# Altium footprint library RPSLib_Antenna.PcbLib: 23 footprints (part 2 of 2)
Each footprint in its own frame and in the unit in brackets; x right, y up, seen from the top. Pads: shape width x height; smd on the part's side, far side on the other; paste and mask are expansions set on the pad; w line width, h text height; cw(c..) or ccw(c..) is an arc to the next point about the centre after c.
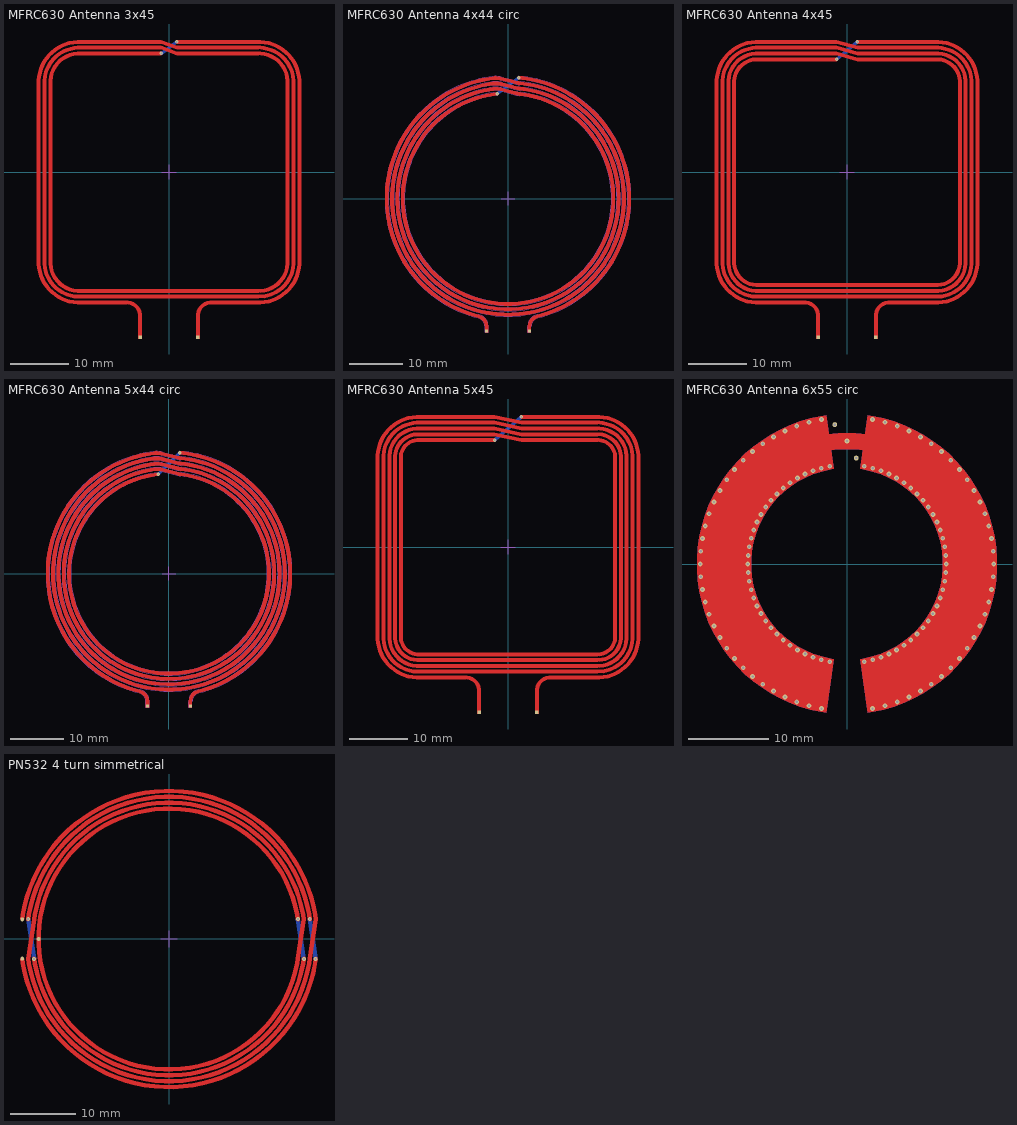
[diagram p1: the footprints below, top view; thin cyan lines are the x and y axes]

## MFRC630 Antenna 3x45 [mm] "Антенна 3 витка 45 мм"
pads (2):
  rect 0.6x0.6 smd mask+0.07: 1(-5,-28.5) 2(5,-28.5)
via -1.3,20.5 diameter 0.6 hole 0.3
via 1.3,22.5 diameter 0.6 hole 0.3
Top Layer:
  region: 5.3,-28.8 5.3,-24.8 5.31,-24.604 5.386,-24.219 5.536,-23.857 5.754,-23.531 6.031,-23.254 6.357,-23.036 6.719,-22.886 7.104,-22.81 7.3,-22.8 15.5,-22.8 15.859,-22.8 16.572,-22.73 17.276,-22.59 17.962,-22.382 18.625,-22.107 19.257,-21.769 19.854,-21.37 20.408,-20.915 20.915,-20.408 21.37,-19.854 21.769,-19.257 22.107,-18.625 22.382,-17.962 22.59,-17.276 22.73,-16.572 22.8,-15.859 22.8,-15.5 22.8,15.5 22.8,15.859 22.73,16.572 22.59,17.276 22.382,17.962 22.107,18.625 21.769,19.257 21.37,19.854 20.915,20.408 20.408,20.915 19.854,21.37 19.257,21.769 18.625,22.107 17.962,22.382 17.276,22.59 16.572,22.73 15.859,22.8 15.5,22.8 1.3,22.8 1.3,22.2 15.5,22.2 15.829,22.192 16.483,22.127 17.128,21.999 17.757,21.808 18.365,21.557 18.944,21.247 19.491,20.881 19.999,20.464 20.464,19.999 20.881,19.491 21.247,18.944 21.557,18.365 21.808,17.757 21.999,17.128 22.127,16.483 22.192,15.829 22.2,15.5 22.2,-15.5 22.192,-15.829 22.127,-16.483 21.999,-17.128 21.808,-17.757 21.557,-18.365 21.247,-18.944 20.881,-19.491 20.464,-19.999 19.999,-20.464 19.491,-20.881 18.944,-21.247 18.365,-21.557 17.757,-21.808 17.128,-21.999 16.483,-22.127 15.829,-22.192 15.5,-22.2 7.3,-22.2 7.044,-22.2 6.542,-22.3 6.068,-22.496 5.643,-22.78 5.28,-23.143 4.996,-23.568 4.8,-24.042 4.7,-24.544 4.7,-24.8 4.7,-28.8
  region: 370 vertices and 0 holes, not listed, extent -22.8,-28.8 21.8,22.8
Bottom Layer:
  lines w0.6: -1.3,20.5 1.3,22.5
Top Solder:
  rectangle: -2.4,20 2.7,23
Mechanical 15:
  lines w0.2: -1.25,0 1.25,0 ; 0,-1.25 0,1.25

## MFRC630 Antenna 4x44 circ [mm] "Антенна 4витка 44 мм"
pads (2):
  rect 0.6x0.6 smd mask+0.07: 1(-4,-24.75) 2(4,-24.75)
via -2,19.598 diameter 0.6 hole 0.3
via 2,22.612 diameter 0.6 hole 0.3
Top Layer:
  region: 805 vertices and 0 holes, not listed, extent -23,-25 22,22.864
  region: 3.7,-25 4.3,-25 4.3,-23.96 4.306,-23.82 4.352,-23.542 4.444,-23.276 4.578,-23.029 4.751,-22.807 4.958,-22.617 5.194,-22.463 5.452,-22.351 5.587,-22.311 6.327,-22.126 7.778,-21.658 9.195,-21.096 10.572,-20.441 11.902,-19.696 13.181,-18.864 14.401,-17.95 15.558,-16.957 16.647,-15.889 17.662,-14.752 18.601,-13.55 19.457,-12.288 20.228,-10.973 20.91,-9.609 21.501,-8.203 21.997,-6.762 22.396,-5.29 22.698,-3.795 22.899,-2.284 23,-0.762 23,0 23,0.711 22.912,2.129 22.737,3.54 22.475,4.937 22.128,6.315 21.696,7.669 21.181,8.993 20.585,10.284 19.911,11.535 19.161,12.742 18.338,13.901 17.445,15.006 16.485,16.055 15.462,17.042 14.381,17.964 13.244,18.817 12.057,19.599 10.825,20.306 9.55,20.936 8.24,21.485 6.898,21.953 5.529,22.337 4.14,22.636 2.734,22.848 2.026,22.911 1.974,22.313 2.662,22.241 4.03,22.035 5.382,21.744 6.714,21.37 8.021,20.915 9.297,20.38 10.537,19.767 11.737,19.079 12.893,18.318 13.999,17.487 15.052,16.589 16.047,15.628 16.981,14.608 17.851,13.532 18.652,12.404 19.382,11.229 20.039,10.011 20.618,8.755 21.12,7.465 21.54,6.147 21.878,4.805 22.133,3.446 22.304,2.073 22.389,0.692 22.4,0 22.388,-0.742 22.289,-2.223 22.093,-3.694 21.8,-5.149 21.411,-6.582 20.928,-7.985 20.354,-9.353 19.69,-10.681 18.939,-11.961 18.105,-13.189 17.192,-14.359 16.204,-15.466 15.144,-16.505 14.018,-17.472 12.83,-18.362 11.586,-19.171 10.291,-19.896 8.95,-20.534 7.571,-21.082 6.158,-21.537 5.441,-21.729 5.256,-21.775 4.906,-21.928 4.586,-22.136 4.304,-22.395 4.069,-22.696 3.887,-23.031 3.763,-23.393 3.7,-23.769 3.7,-23.96
Bottom Layer:
  lines w0.6: -2,19.598 2,22.612
Mechanical 1:
  lines w0.1: -23,0 cw(c0,0) -2.813,22.827 cw(c-2.287,18.56) -1.24,22.73 0.073,22.401 1.787,21.97 ccw(c2.688,25.559) 2.301,21.879 cw(c0,0) 22,0 cw(c0,0) 0,-22 cw(c0,0) -22,0 cw(c0,0) -2.83,21.817 cw(c-2.277,17.553) -1.23,21.723 0.073,21.396 1.796,20.964 ccw(c2.697,24.552) 2.293,20.874 cw(c0,0) 21,0 cw(c0,0) 0,-21 cw(c0,0) -21,0 cw(c0,0) -2.849,20.806 cw(c-2.266,16.546) -1.218,20.716 0.073,20.392 1.805,19.956 ccw(c2.707,23.545) 2.284,19.869 cw(c0,0) 20,0 cw(c0,0) 0,-20 cw(c0,0) -20,0 cw(c0,0) -2.03,19.897 -1.97,19.3 ccw(c0,0) -19.4,0 ccw(c0,0) 0,-19.4 ccw(c0,0) 19.4,0 ccw(c0,0) 2.216,19.273 cw(c2.707,23.545) 1.659,19.374 -0.073,19.81 -1.364,20.134 ccw(c-2.266,16.546) -2.768,20.211 ccw(c0,0) -20.4,0 ccw(c0,0) 0,-20.4 ccw(c0,0) 20.4,0 ccw(c0,0) 2.228,20.278 cw(c2.697,24.552) 1.65,20.382 -0.073,20.814 -1.376,21.142 ccw(c-2.277,17.553) -2.753,21.222 ccw(c0,0) -21.4,0 ccw(c0,0) 0,-21.4 ccw(c0,0) 21.4,0 ccw(c0,0) 2.238,21.283 cw(c2.688,25.559) 1.641,21.388 -0.073,21.819 -1.386,22.148 ccw(c-2.287,18.56) -2.739,22.232 ccw(c0,0) -22.4,0 ccw(c0,0) -5.441,-21.729 cw(c-6,-23.96) -3.7,-23.96 -3.7,-25 -4.3,-25 -4.3,-23.96 ccw(c-6,-23.96) -5.587,-22.311 cw(c0,0) -23,0 ; 1.974,22.313 cw(c0,0) 22.4,0 cw(c0,0) 5.441,-21.729 ccw(c6,-23.96) 3.7,-23.96 3.7,-25 4.3,-25 4.3,-23.96 cw(c6,-23.96) 5.587,-22.311 ccw(c0,0) 23,0 ccw(c0,0) 2.026,22.911 1.974,22.313
Mechanical 15:
  lines w0.2: -1.25,0 1.25,0 ; 0,-1.25 0,1.25

## MFRC630 Antenna 4x45 [mm] "Антенна 4 витка 45 мм"
pads (2):
  rect 0.6x0.6 smd mask+0.07: 1(-5,-28.5) 2(5,-28.5)
via -1.8,19.5 diameter 0.6 hole 0.3
via 1.8,22.5 diameter 0.6 hole 0.3
Top Layer:
  region: 4.7,-28.8 5.3,-28.8 5.3,-24.8 5.31,-24.604 5.386,-24.219 5.536,-23.857 5.754,-23.531 6.031,-23.254 6.357,-23.036 6.719,-22.886 7.104,-22.81 7.3,-22.8 15.5,-22.8 15.859,-22.8 16.572,-22.73 17.276,-22.59 17.962,-22.382 18.625,-22.107 19.257,-21.769 19.854,-21.37 20.408,-20.915 20.915,-20.408 21.37,-19.854 21.769,-19.257 22.107,-18.625 22.382,-17.962 22.59,-17.276 22.73,-16.572 22.8,-15.859 22.8,-15.5 22.8,15.5 22.8,15.859 22.73,16.572 22.59,17.276 22.382,17.962 22.107,18.625 21.769,19.257 21.37,19.854 20.915,20.408 20.408,20.915 19.854,21.37 19.257,21.769 18.625,22.107 17.962,22.382 17.276,22.59 16.572,22.73 15.859,22.8 15.5,22.8 1.8,22.8 1.8,22.2 15.5,22.2 15.829,22.192 16.483,22.127 17.128,21.999 17.757,21.808 18.365,21.557 18.944,21.247 19.491,20.881 19.999,20.464 20.464,19.999 20.881,19.491 21.247,18.944 21.557,18.365 21.808,17.757 21.999,17.128 22.127,16.483 22.192,15.829 22.2,15.5 22.2,-15.5 22.192,-15.829 22.127,-16.483 21.999,-17.128 21.808,-17.757 21.557,-18.365 21.247,-18.944 20.881,-19.491 20.464,-19.999 19.999,-20.464 19.491,-20.881 18.944,-21.247 18.365,-21.557 17.757,-21.808 17.128,-21.999 16.483,-22.127 15.829,-22.192 15.5,-22.2 7.3,-22.2 7.044,-22.2 6.542,-22.3 6.068,-22.496 5.643,-22.78 5.28,-23.143 4.996,-23.568 4.8,-24.042 4.7,-24.544 4.7,-24.8
  region: 499 vertices and 0 holes, not listed, extent -22.8,-28.8 21.8,22.8
Bottom Layer:
  lines w0.6: -1.8,19.5 1.8,22.5
Top Solder:
  rectangle: -2.2,19 2.8,23
Mechanical 15:
  lines w0.2: -1.25,0 1.25,0 ; 0,-1.25 0,1.25

## MFRC630 Antenna 5x44 circ [mm] "Антенна 5 витков 44 мм"
pads (2):
  rect 0.6x0.6 smd mask+0.07: 1(-4,-24.75) 2(4,-24.75)
via -2,18.593 diameter 0.6 hole 0.3
via 2,22.612 diameter 0.6 hole 0.3
Top Layer:
  region: 928 vertices and 0 holes, not listed, extent -23.001,-25 22.01,22.864
  region: 3.7,-25 3.7,-23.96 3.7,-23.769 3.763,-23.393 3.887,-23.031 4.069,-22.696 4.304,-22.395 4.586,-22.136 4.906,-21.928 5.256,-21.775 5.441,-21.729 6.132,-21.544 7.493,-21.109 8.824,-20.589 10.119,-19.984 11.373,-19.298 12.581,-18.533 13.737,-17.693 14.838,-16.781 15.878,-15.801 16.853,-14.756 17.76,-13.651 18.594,-12.491 19.353,-11.279 20.033,-10.022 20.631,-8.724 21.146,-7.391 21.574,-6.027 21.914,-4.639 22.166,-3.232 22.327,-1.812 22.397,-0.384 22.376,1.045 22.263,2.47 22.061,3.885 21.768,5.284 21.387,6.661 20.918,8.011 20.365,9.329 19.728,10.609 19.012,11.846 18.217,13.034 17.349,14.169 16.41,15.247 15.404,16.262 14.336,17.212 13.209,18.091 12.028,18.896 10.799,19.625 9.525,20.274 8.213,20.84 6.867,21.321 5.493,21.716 4.097,22.022 2.684,22.239 1.974,22.313 2.026,22.911 2.758,22.846 4.209,22.623 5.643,22.309 7.055,21.904 8.437,21.409 9.785,20.828 11.094,20.161 12.357,19.413 13.57,18.585 14.727,17.682 15.825,16.706 16.858,15.663 17.823,14.556 18.715,13.39 19.531,12.169 20.267,10.899 20.921,9.584 21.49,8.23 21.971,6.843 22.362,5.428 22.663,3.991 22.871,2.537 22.987,1.073 23.008,-0.395 22.936,-1.861 22.771,-3.32 22.513,-4.766 22.163,-6.192 21.723,-7.593 21.195,-8.962 20.58,-10.296 19.881,-11.587 19.102,-12.832 18.245,-14.024 17.313,-15.159 16.311,-16.232 15.243,-17.239 14.112,-18.176 12.924,-19.039 11.684,-19.825 10.396,-20.53 9.065,-21.151 7.698,-21.686 6.299,-22.133 5.587,-22.311 5.452,-22.351 5.194,-22.463 4.958,-22.617 4.751,-22.807 4.578,-23.029 4.444,-23.276 4.352,-23.542 4.306,-23.82 4.3,-23.96 4.3,-25
Bottom Layer:
  lines w0.6: -2,18.593 2,22.612
Mechanical 1:
  lines w0.1: -5.587,-22.311 cw(c0,0) -2.813,22.827 cw(c-2.287,18.56) -1.24,22.73 1.787,21.97 ccw(c2.688,25.559) 2.301,21.879 cw(c0,0) -2.83,21.817 cw(c-2.277,17.553) -1.23,21.723 1.796,20.964 ccw(c2.697,24.552) 2.293,20.874 cw(c0,0) -2.849,20.806 cw(c-2.266,16.546) -1.218,20.716 1.805,19.956 ccw(c2.707,23.545) 2.284,19.869 cw(c0,0) -2.87,19.793 cw(c-2.253,15.537) -1.205,19.708 1.816,18.948 ccw(c2.718,22.537) 2.275,18.863 cw(c0,0) -2.032,18.891 -1.968,18.294 ccw(c0,0) 2.203,18.268 cw(c2.718,22.537) 1.67,18.366 -1.351,19.126 ccw(c-2.253,15.537) -2.784,19.199 ccw(c0,0) 2.216,19.273 cw(c2.707,23.545) 1.659,19.374 -1.364,20.134 ccw(c-2.266,16.546) -2.768,20.211 ccw(c0,0) 2.228,20.278 cw(c2.697,24.552) 1.65,20.382 -1.376,21.142 ccw(c-2.277,17.553) -2.753,21.222 ccw(c0,0) 2.238,21.283 cw(c2.688,25.559) 1.641,21.388 -1.386,22.148 ccw(c-2.287,18.56) -2.739,22.232 ccw(c0,0) -5.441,-21.729 cw(c-6,-23.96) -3.7,-23.96 -3.7,-25 -4.3,-25 -4.3,-23.96 ccw(c-6,-23.96) -5.587,-22.311 ; 1.974,22.313 cw(c0,0) 5.441,-21.729 ccw(c6,-23.96) 3.7,-23.96 3.7,-25 4.3,-25 4.3,-23.96 cw(c6,-23.96) 5.587,-22.311 ccw(c0,0) 2.026,22.911 1.974,22.313
Mechanical 15:
  lines w0.2: -1.25,0 1.25,0 ; 0,-1.25 0,1.25

## MFRC630 Antenna 5x45 [mm] "Антенна 5 витка 45 мм"
pads (2):
  rect 0.6x0.6 smd mask+0.07: 1(-5,-28.5) 2(5,-28.5)
via -2.3,18.5 diameter 0.6 hole 0.3
via 2.3,22.5 diameter 0.6 hole 0.3
Top Layer:
  region: 4.7,-28.8 5.3,-28.8 5.3,-24.8 5.31,-24.604 5.386,-24.219 5.536,-23.857 5.754,-23.531 6.031,-23.254 6.357,-23.036 6.719,-22.886 7.104,-22.81 7.3,-22.8 15.5,-22.8 15.859,-22.8 16.572,-22.73 17.276,-22.59 17.962,-22.382 18.625,-22.107 19.257,-21.769 19.854,-21.37 20.408,-20.915 20.915,-20.408 21.37,-19.854 21.769,-19.257 22.107,-18.625 22.382,-17.962 22.59,-17.276 22.73,-16.572 22.8,-15.859 22.8,-15.5 22.8,15.5 22.8,15.859 22.73,16.572 22.59,17.276 22.382,17.962 22.107,18.625 21.769,19.257 21.37,19.854 20.915,20.408 20.408,20.915 19.854,21.37 19.257,21.769 18.625,22.107 17.962,22.382 17.276,22.59 16.572,22.73 15.859,22.8 15.5,22.8 2.3,22.8 2.3,22.2 15.5,22.2 15.829,22.192 16.483,22.127 17.128,21.999 17.757,21.808 18.365,21.557 18.944,21.247 19.491,20.881 19.999,20.464 20.464,19.999 20.881,19.491 21.247,18.944 21.557,18.365 21.808,17.757 21.999,17.128 22.127,16.483 22.192,15.829 22.2,15.5 22.2,-15.5 22.192,-15.829 22.127,-16.483 21.999,-17.128 21.808,-17.757 21.557,-18.365 21.247,-18.944 20.881,-19.491 20.464,-19.999 19.999,-20.464 19.491,-20.881 18.944,-21.247 18.365,-21.557 17.757,-21.808 17.128,-21.999 16.483,-22.127 15.829,-22.192 15.5,-22.2 7.3,-22.2 7.044,-22.2 6.542,-22.3 6.068,-22.496 5.643,-22.78 5.28,-23.143 4.996,-23.568 4.8,-24.042 4.7,-24.544 4.7,-24.8
  region: 622 vertices and 0 holes, not listed, extent -22.8,-28.8 21.8,22.8
Bottom Layer:
  lines w0.6: -2.3,18.5 2.3,22.5
Top Solder:
  rectangle: -4.5,18 4.7,23
Mechanical 15:
  lines w0.2: -1.25,0 1.25,0 ; 0,-1.25 0,1.25

## MFRC630 Antenna 6x55 circ [mm] "Антенна 6 витков 35 мм"
pads (3):
  round 0.6 hole 0.3 mask+0.07: 1(-1.524,17.424) 2(1.159,13.244) 3(0,15.375)
via 18.35,0 diameter 0.6 hole 0.3
via 18.28,-1.599 diameter 0.6 hole 0.3
via 18.071,-3.186 diameter 0.6 hole 0.3
via 17.725,-4.749 diameter 0.6 hole 0.3
via 17.243,-6.276 diameter 0.6 hole 0.3
via 16.631,-7.755 diameter 0.6 hole 0.3
via 15.892,-9.175 diameter 0.6 hole 0.3
via 15.031,-10.525 diameter 0.6 hole 0.3
via 14.057,-11.795 diameter 0.6 hole 0.3
via 12.975,-12.975 diameter 0.6 hole 0.3
via 11.795,-14.057 diameter 0.6 hole 0.3
via 10.525,-15.031 diameter 0.6 hole 0.3
via 9.175,-15.892 diameter 0.6 hole 0.3
via 7.755,-16.631 diameter 0.6 hole 0.3
via 6.276,-17.243 diameter 0.6 hole 0.3
via 4.749,-17.725 diameter 0.6 hole 0.3
via 3.186,-18.071 diameter 0.6 hole 0.3
via -3.186,-18.071 diameter 0.6 hole 0.3
via -4.749,-17.725 diameter 0.6 hole 0.3
via -6.276,-17.243 diameter 0.6 hole 0.3
via -7.755,-16.631 diameter 0.6 hole 0.3
via -9.175,-15.892 diameter 0.6 hole 0.3
via -10.525,-15.031 diameter 0.6 hole 0.3
via -11.795,-14.057 diameter 0.6 hole 0.3
via -12.975,-12.975 diameter 0.6 hole 0.3
via -14.057,-11.795 diameter 0.6 hole 0.3
via -15.031,-10.525 diameter 0.6 hole 0.3
via -15.892,-9.175 diameter 0.6 hole 0.3
via -16.631,-7.755 diameter 0.6 hole 0.3
via -17.243,-6.276 diameter 0.6 hole 0.3
via -17.725,-4.749 diameter 0.6 hole 0.3
via -18.071,-3.186 diameter 0.6 hole 0.3
via -18.28,-1.599 diameter 0.6 hole 0.3
via -18.35,0 diameter 0.6 hole 0.3
via -18.28,1.599 diameter 0.6 hole 0.3
via -18.071,3.186 diameter 0.6 hole 0.3
via -17.725,4.749 diameter 0.6 hole 0.3
via -17.243,6.276 diameter 0.6 hole 0.3
via -16.631,7.755 diameter 0.6 hole 0.3
via -15.892,9.175 diameter 0.6 hole 0.3
via -15.031,10.525 diameter 0.6 hole 0.3
via -14.057,11.795 diameter 0.6 hole 0.3
via -12.975,12.975 diameter 0.6 hole 0.3
via -11.795,14.057 diameter 0.6 hole 0.3
via -10.525,15.031 diameter 0.6 hole 0.3
via -9.175,15.892 diameter 0.6 hole 0.3
via -7.755,16.631 diameter 0.6 hole 0.3
via -6.276,17.243 diameter 0.6 hole 0.3
via -4.749,17.725 diameter 0.6 hole 0.3
via -3.186,18.071 diameter 0.6 hole 0.3
via 3.186,18.071 diameter 0.6 hole 0.3
via 4.749,17.725 diameter 0.6 hole 0.3
via 6.276,17.243 diameter 0.6 hole 0.3
via 7.755,16.631 diameter 0.6 hole 0.3
via 9.175,15.892 diameter 0.6 hole 0.3
via 10.525,15.031 diameter 0.6 hole 0.3
via 11.795,14.057 diameter 0.6 hole 0.3
via 12.975,12.975 diameter 0.6 hole 0.3
via 14.057,11.795 diameter 0.6 hole 0.3
via 15.031,10.525 diameter 0.6 hole 0.3
via 15.892,9.175 diameter 0.6 hole 0.3
via 16.631,7.755 diameter 0.6 hole 0.3
via 17.243,6.276 diameter 0.6 hole 0.3
via 17.725,4.749 diameter 0.6 hole 0.3
via 18.071,3.186 diameter 0.6 hole 0.3
via 18.28,1.599 diameter 0.6 hole 0.3
via 18.35,0 diameter 0.6 hole 0.3
via 7.112,-10.157 diameter 0.6 hole 0.3
via 5.24,-11.238 diameter 0.6 hole 0.3
via 4.241,-11.652 diameter 0.6 hole 0.3
via 2.153,-12.212 diameter 0.6 hole 0.3
via 7.971,-9.499 diameter 0.6 hole 0.3
via 6.2,-10.739 diameter 0.6 hole 0.3
via 3.209,-11.977 diameter 0.6 hole 0.3
via 12.353,-1.081 diameter 0.6 hole 0.3
via 12.212,-2.153 diameter 0.6 hole 0.3
via 11.977,-3.209 diameter 0.6 hole 0.3
via 11.652,-4.241 diameter 0.6 hole 0.3
via 11.238,-5.24 diameter 0.6 hole 0.3
via 10.739,-6.2 diameter 0.6 hole 0.3
via 10.157,-7.112 diameter 0.6 hole 0.3
via 9.499,-7.971 diameter 0.6 hole 0.3
via 8.768,-8.768 diameter 0.6 hole 0.3
via -8.768,-8.768 diameter 0.6 hole 0.3
via -9.499,-7.971 diameter 0.6 hole 0.3
via -10.157,-7.112 diameter 0.6 hole 0.3
via -10.739,-6.2 diameter 0.6 hole 0.3
via -11.238,-5.24 diameter 0.6 hole 0.3
via -11.652,-4.241 diameter 0.6 hole 0.3
via -11.977,-3.209 diameter 0.6 hole 0.3
via -12.212,-2.153 diameter 0.6 hole 0.3
via -12.353,-1.081 diameter 0.6 hole 0.3
via -3.209,-11.977 diameter 0.6 hole 0.3
via -6.2,-10.739 diameter 0.6 hole 0.3
via -7.971,-9.499 diameter 0.6 hole 0.3
via -2.153,-12.212 diameter 0.6 hole 0.3
via -4.241,-11.652 diameter 0.6 hole 0.3
via -5.24,-11.238 diameter 0.6 hole 0.3
via -7.112,-10.157 diameter 0.6 hole 0.3
via -7.112,10.157 diameter 0.6 hole 0.3
via -5.24,11.238 diameter 0.6 hole 0.3
via -4.241,11.652 diameter 0.6 hole 0.3
via -2.153,12.212 diameter 0.6 hole 0.3
via -7.971,9.499 diameter 0.6 hole 0.3
via -6.2,10.739 diameter 0.6 hole 0.3
via -3.209,11.977 diameter 0.6 hole 0.3
via -12.4,0 diameter 0.6 hole 0.3
via -12.353,1.081 diameter 0.6 hole 0.3
via -12.212,2.153 diameter 0.6 hole 0.3
via -11.977,3.209 diameter 0.6 hole 0.3
via -11.652,4.241 diameter 0.6 hole 0.3
via -11.238,5.24 diameter 0.6 hole 0.3
via -10.739,6.2 diameter 0.6 hole 0.3
via -10.157,7.112 diameter 0.6 hole 0.3
via -9.499,7.971 diameter 0.6 hole 0.3
via -8.768,8.768 diameter 0.6 hole 0.3
via 8.768,8.768 diameter 0.6 hole 0.3
via 9.499,7.971 diameter 0.6 hole 0.3
via 10.157,7.112 diameter 0.6 hole 0.3
via 10.739,6.2 diameter 0.6 hole 0.3
via 11.238,5.24 diameter 0.6 hole 0.3
via 11.652,4.241 diameter 0.6 hole 0.3
via 11.977,3.209 diameter 0.6 hole 0.3
via 12.212,2.153 diameter 0.6 hole 0.3
via 12.353,1.081 diameter 0.6 hole 0.3
via 12.4,0 diameter 0.6 hole 0.3
via 3.209,11.977 diameter 0.6 hole 0.3
via 6.2,10.739 diameter 0.6 hole 0.3
via 7.971,9.499 diameter 0.6 hole 0.3
via 2.153,12.212 diameter 0.6 hole 0.3
via 4.241,11.652 diameter 0.6 hole 0.3
via 5.24,11.238 diameter 0.6 hole 0.3
via 7.112,10.157 diameter 0.6 hole 0.3
Top Layer:
  region: -2.609,-18.568 -3.274,-18.474 -4.587,-18.193 -5.876,-17.818 -7.135,-17.353 -8.357,-16.798 -9.537,-16.158 -10.667,-15.434 -11.744,-14.632 -12.76,-13.755 -13.71,-12.808 -14.591,-11.795 -15.397,-10.721 -16.124,-9.593 -16.769,-8.415 -17.328,-7.195 -17.798,-5.938 -18.177,-4.65 -18.463,-3.339 -18.654,-2.01 -18.75,-0.671 -18.75,0.671 -18.654,2.01 -18.463,3.339 -18.177,4.65 -17.798,5.938 -17.328,7.195 -16.769,8.415 -16.124,9.593 -15.397,10.721 -14.591,11.795 -13.71,12.808 -12.76,13.755 -11.744,14.632 -10.667,15.434 -9.537,16.158 -8.357,16.798 -7.135,17.353 -5.876,17.818 -4.587,18.193 -3.274,18.474 -2.609,18.568 -1.67,11.883 -2.2,11.797 -3.245,11.553 -4.264,11.217 -5.249,10.791 -6.192,10.279 -7.085,9.685 -7.922,9.013 -8.695,8.27 -9.399,7.46 -10.028,6.59 -10.577,5.668 -11.041,4.701 -11.417,3.696 -11.701,2.661 -11.892,1.605 -11.988,0.537 -11.988,-0.537 -11.892,-1.605 -11.701,-2.661 -11.417,-3.696 -11.041,-4.701 -10.577,-5.668 -10.028,-6.59 -9.399,-7.46 -8.695,-8.27 -7.922,-9.013 -7.085,-9.685 -6.192,-10.279 -5.249,-10.791 -4.264,-11.217 -3.245,-11.553 -2.2,-11.797 -1.67,-11.883
  region: 1.67,-11.883 2.2,-11.797 3.245,-11.553 4.264,-11.217 5.249,-10.791 6.192,-10.279 7.085,-9.685 7.922,-9.013 8.695,-8.27 9.399,-7.46 10.028,-6.59 10.577,-5.668 11.041,-4.701 11.417,-3.696 11.701,-2.661 11.892,-1.605 11.988,-0.537 11.988,0.537 11.892,1.605 11.701,2.661 11.417,3.696 11.041,4.701 10.577,5.668 10.028,6.59 9.399,7.46 8.695,8.27 7.922,9.013 7.085,9.685 6.192,10.279 5.249,10.791 4.264,11.217 3.245,11.553 2.2,11.797 1.67,11.883 2.609,18.568 3.274,18.474 4.587,18.193 5.876,17.818 7.135,17.353 8.357,16.798 9.537,16.158 10.667,15.434 11.744,14.632 12.76,13.755 13.71,12.808 14.591,11.795 15.397,10.721 16.124,9.593 16.769,8.415 17.328,7.195 17.798,5.938 18.177,4.65 18.463,3.339 18.654,2.01 18.75,0.671 18.75,-0.671 18.654,-2.01 18.463,-3.339 18.177,-4.65 17.798,-5.938 17.328,-7.195 16.769,-8.415 16.124,-9.593 15.397,-10.721 14.591,-11.795 13.71,-12.808 12.76,-13.755 11.744,-14.632 10.667,-15.434 9.537,-16.158 8.357,-16.798 7.135,-17.353 5.876,-17.818 4.587,-18.193 3.274,-18.474 2.609,-18.568
  region: -2.496,14.157 -2.843,16.126 -2.492,16.188 -1.783,16.282 -1.071,16.344 -0.357,16.375 0.357,16.375 1.071,16.344 1.783,16.282 2.492,16.188 2.843,16.126 2.496,14.157 2.187,14.208 1.565,14.29 0.94,14.344 0.314,14.372 -0.314,14.372 -0.94,14.344 -1.565,14.29 -2.187,14.208
Signal Layer 1:
  drawing of 1 lines, arcs and shapes, not listed
Bottom Layer:
  region: 1.67,-11.883 2.2,-11.797 3.245,-11.553 4.264,-11.217 5.249,-10.791 6.192,-10.279 7.085,-9.685 7.922,-9.013 8.695,-8.27 9.399,-7.46 10.028,-6.59 10.577,-5.668 11.041,-4.701 11.417,-3.696 11.701,-2.661 11.892,-1.605 11.988,-0.537 11.988,0.537 11.892,1.605 11.701,2.661 11.417,3.696 11.041,4.701 10.577,5.668 10.028,6.59 9.399,7.46 8.695,8.27 7.922,9.013 7.085,9.685 6.192,10.279 5.249,10.791 4.264,11.217 3.245,11.553 2.2,11.797 1.67,11.883 2.609,18.568 3.274,18.474 4.587,18.193 5.876,17.818 7.135,17.353 8.357,16.798 9.537,16.158 10.667,15.434 11.744,14.632 12.76,13.755 13.71,12.808 14.591,11.795 15.397,10.721 16.124,9.593 16.769,8.415 17.328,7.195 17.798,5.938 18.177,4.65 18.463,3.339 18.654,2.01 18.75,0.671 18.75,-0.671 18.654,-2.01 18.463,-3.339 18.177,-4.65 17.798,-5.938 17.328,-7.195 16.769,-8.415 16.124,-9.593 15.397,-10.721 14.591,-11.795 13.71,-12.808 12.76,-13.755 11.744,-14.632 10.667,-15.434 9.537,-16.158 8.357,-16.798 7.135,-17.353 5.876,-17.818 4.587,-18.193 3.274,-18.474 2.609,-18.568
  region: -2.496,14.157 -2.843,16.126 -2.492,16.188 -1.783,16.282 -1.071,16.344 -0.357,16.375 0.357,16.375 1.071,16.344 1.783,16.282 2.492,16.188 2.843,16.126 2.496,14.157 2.187,14.208 1.565,14.29 0.94,14.344 0.314,14.372 -0.314,14.372 -0.94,14.344 -1.565,14.29 -2.187,14.208
  region: -2.609,-18.568 -3.274,-18.474 -4.587,-18.193 -5.876,-17.818 -7.135,-17.353 -8.357,-16.798 -9.537,-16.158 -10.667,-15.434 -11.744,-14.632 -12.76,-13.755 -13.71,-12.808 -14.591,-11.795 -15.397,-10.721 -16.124,-9.593 -16.769,-8.415 -17.328,-7.195 -17.798,-5.938 -18.177,-4.65 -18.463,-3.339 -18.654,-2.01 -18.75,-0.671 -18.75,0.671 -18.654,2.01 -18.463,3.339 -18.177,4.65 -17.798,5.938 -17.328,7.195 -16.769,8.415 -16.124,9.593 -15.397,10.721 -14.591,11.795 -13.71,12.808 -12.76,13.755 -11.744,14.632 -10.667,15.434 -9.537,16.158 -8.357,16.798 -7.135,17.353 -5.876,17.818 -4.587,18.193 -3.274,18.474 -2.609,18.568 -1.67,11.883 -2.2,11.797 -3.245,11.553 -4.264,11.217 -5.249,10.791 -6.192,10.279 -7.085,9.685 -7.922,9.013 -8.695,8.27 -9.399,7.46 -10.028,6.59 -10.577,5.668 -11.041,4.701 -11.417,3.696 -11.701,2.661 -11.892,1.605 -11.988,0.537 -11.988,-0.537 -11.892,-1.605 -11.701,-2.661 -11.417,-3.696 -11.041,-4.701 -10.577,-5.668 -10.028,-6.59 -9.399,-7.46 -8.695,-8.27 -7.922,-9.013 -7.085,-9.685 -6.192,-10.279 -5.249,-10.791 -4.264,-11.217 -3.245,-11.553 -2.2,-11.797 -1.67,-11.883

## PN532 4 turn simmetrical [mm]
pads (3):
  round 0.6 smd mask+0.07: 1(-22.501,3) 2(-22.501,-3) 3(-19.983,0)
via -21.587,3.042 diameter 0.6 hole 0.3
via -20.677,-3.044 diameter 0.6 hole 0.3
via 22.495,-3.04 diameter 0.6 hole 0.3
via 20.677,-3.044 diameter 0.6 hole 0.3
via 19.767,3.046 diameter 0.6 hole 0.3
via 21.587,3.042 diameter 0.6 hole 0.3
Top Layer:
  region: -22.804,-3 -22.705,-3.746 -22.412,-5.221 -22.023,-6.674 -21.54,-8.098 -20.965,-9.488 -20.301,-10.838 -19.549,-12.141 -18.714,-13.392 -17.8,-14.586 -16.809,-15.717 -15.746,-16.782 -14.616,-17.775 -13.424,-18.691 -12.174,-19.528 -10.872,-20.282 -9.524,-20.949 -8.135,-21.526 -6.711,-22.012 -5.259,-22.403 -3.784,-22.699 -2.293,-22.898 -0.793,-22.999 0.712,-23.001 2.213,-22.906 3.704,-22.712 5.18,-22.422 6.634,-22.035 8.059,-21.555 9.45,-20.982 10.801,-20.32 12.105,-19.571 13.358,-18.739 14.553,-17.826 15.687,-16.837 16.753,-15.777 17.748,-14.648 18.667,-13.458 19.506,-12.209 20.262,-10.909 20.932,-9.562 21.512,-8.174 22,-6.751 22.394,-5.3 22.692,-3.826 22.793,-3.08 22.801,-3.021 22.77,-2.906 22.698,-2.811 22.595,-2.751 22.477,-2.735 22.361,-2.765 22.266,-2.838 22.206,-2.941 22.198,-3 22.088,-3.723 21.798,-5.156 21.416,-6.568 20.941,-7.951 20.378,-9.3 19.728,-10.61 18.993,-11.875 18.178,-13.089 17.285,-14.247 16.319,-15.344 15.283,-16.376 14.182,-17.339 13.02,-18.227 11.803,-19.038 10.536,-19.767 9.224,-20.413 7.872,-20.971 6.487,-21.44 5.075,-21.818 3.64,-22.102 2.19,-22.293 0.731,-22.388 -0.731,-22.388 -2.19,-22.293 -3.64,-22.102 -5.075,-21.818 -6.487,-21.44 -7.872,-20.971 -9.224,-20.413 -10.536,-19.767 -11.803,-19.038 -13.02,-18.227 -14.182,-17.339 -15.283,-16.376 -16.319,-15.344 -17.285,-14.247 -18.178,-13.089 -18.993,-11.875 -19.728,-10.61 -20.378,-9.3 -20.941,-7.951 -21.416,-6.568 -21.798,-5.156 -22.088,-3.723 -22.198,-3
  region: -21.884,3.084 -21.892,3.025 -21.862,2.909 -21.79,2.814 -21.688,2.753 -21.57,2.736 -21.454,2.766 -21.359,2.838 -21.298,2.941 -21.29,3 -21.181,3.691 -20.896,5.059 -20.523,6.407 -20.063,7.727 -19.519,9.015 -18.892,10.264 -18.185,11.47 -17.401,12.628 -16.543,13.732 -15.616,14.778 -14.622,15.762 -13.567,16.679 -12.455,17.525 -11.289,18.298 -10.076,18.993 -8.821,19.607 -7.528,20.139 -6.203,20.586 -4.852,20.945 -3.48,21.216 -2.094,21.398 -0.699,21.489 0.699,21.489 2.094,21.398 3.48,21.216 4.852,20.945 6.203,20.586 7.528,20.139 8.821,19.607 10.076,18.993 11.289,18.298 12.455,17.525 13.567,16.679 14.622,15.762 15.616,14.778 16.543,13.732 17.401,12.628 18.185,11.47 18.892,10.264 19.519,9.015 20.063,7.727 20.523,6.407 20.896,5.059 21.181,3.691 21.29,3 21.298,2.941 21.359,2.838 21.454,2.766 21.57,2.736 21.688,2.753 21.79,2.814 21.862,2.909 21.892,3.025 21.884,3.084 21.783,3.796 21.491,5.203 21.107,6.589 20.634,7.947 20.074,9.271 19.429,10.556 18.702,11.797 17.896,12.987 17.014,14.123 16.06,15.199 15.039,16.21 13.953,17.153 12.809,18.024 11.61,18.818 10.363,19.533 9.072,20.165 7.742,20.712 6.379,21.171 4.99,21.541 3.579,21.82 2.154,22.007 0.719,22.1 -0.719,22.1 -2.154,22.007 -3.579,21.82 -4.99,21.541 -6.379,21.171 -7.742,20.712 -9.072,20.165 -10.363,19.533 -11.61,18.818 -12.809,18.024 -13.953,17.153 -15.039,16.21 -16.06,15.199 -17.014,14.123 -17.896,12.987 -18.702,11.797 -19.429,10.556 -20.074,9.271 -20.634,7.947 -21.107,6.589 -21.491,5.203 -21.783,3.796
  region: -20.974,-3.087 -20.874,-3.767 -20.586,-5.11 -20.213,-6.431 -19.754,-7.726 -19.213,-8.988 -18.591,-10.212 -17.891,-11.394 -17.116,-12.528 -16.27,-13.609 -15.355,-14.633 -14.376,-15.596 -13.336,-16.494 -12.241,-17.322 -11.095,-18.078 -9.901,-18.758 -8.667,-19.36 -7.396,-19.88 -6.094,-20.317 -4.766,-20.669 -3.419,-20.934 -2.057,-21.111 -0.687,-21.2 0.687,-21.2 2.057,-21.111 3.419,-20.934 4.766,-20.669 6.094,-20.317 7.396,-19.88 8.667,-19.36 9.901,-18.758 11.095,-18.078 12.241,-17.322 13.336,-16.494 14.376,-15.596 15.355,-14.633 16.27,-13.609 17.116,-12.528 17.891,-11.394 18.591,-10.212 19.213,-8.988 19.754,-7.726 20.213,-6.431 20.586,-5.11 20.874,-3.767 20.974,-3.087 20.983,-3.028 20.954,-2.913 20.882,-2.817 20.78,-2.756 20.662,-2.738 20.546,-2.767 20.45,-2.839 20.389,-2.941 20.38,-3 20.273,-3.658 19.993,-4.962 19.63,-6.246 19.185,-7.503 18.659,-8.729 18.055,-9.918 17.376,-11.066 16.623,-12.167 15.801,-13.217 14.913,-14.212 13.962,-15.147 12.952,-16.019 11.889,-16.823 10.775,-17.557 9.616,-18.218 8.417,-18.802 7.183,-19.307 5.918,-19.732 4.629,-20.073 3.32,-20.331 1.998,-20.503 0.667,-20.589 -0.667,-20.589 -1.998,-20.503 -3.32,-20.331 -4.629,-20.073 -5.918,-19.732 -7.183,-19.307 -8.417,-18.802 -9.616,-18.218 -10.775,-17.557 -11.889,-16.823 -12.952,-16.019 -13.962,-15.147 -14.913,-14.212 -15.801,-13.217 -16.623,-12.167 -17.376,-11.066 -18.055,-9.918 -18.659,-8.729 -19.185,-7.503 -19.63,-6.246 -19.993,-4.962 -20.273,-3.658 -20.38,-3 -20.389,-2.941 -20.45,-2.839 -20.546,-2.767 -20.662,-2.738 -20.78,-2.756 -20.882,-2.817 -20.954,-2.913 -20.983,-3.028
  region: 473 vertices and 0 holes, not listed, extent -22.804,-22.1 22.804,23
Bottom Layer:
  region: -20.974,-3.088 -21.883,2.998 -21.892,3.057 -21.863,3.172 -21.792,3.268 -21.69,3.33 -21.572,3.347 -21.456,3.319 -21.36,3.248 -21.299,3.145 -21.29,3.086 -20.38,-2.999 -20.372,-3.058 -20.401,-3.174 -20.472,-3.27 -20.574,-3.332 -20.692,-3.349 -20.808,-3.32 -20.904,-3.249 -20.965,-3.146 -20.974,-3.087
  region: 22.199,-3.085 21.29,2.998 21.281,3.057 21.31,3.172 21.381,3.268 21.483,3.33 21.601,3.347 21.717,3.319 21.813,3.248 21.875,3.145 21.883,3.086 22.792,-2.996 22.801,-3.055 22.772,-3.171 22.701,-3.267 22.599,-3.328 22.481,-3.346 22.365,-3.317 22.269,-3.246 22.208,-3.144
  region: 20.38,-3.088 19.47,3.001 19.461,3.06 19.49,3.176 19.561,3.272 19.663,3.334 19.781,3.351 19.897,3.322 19.993,3.251 20.055,3.149 20.063,3.09 20.974,-2.999 20.983,-3.058 20.954,-3.174 20.883,-3.27 20.781,-3.332 20.663,-3.349 20.547,-3.32 20.451,-3.249 20.389,-3.147
Mechanical 15:
  lines w0.1: -1.25,0 1.25,0 ; 0,-1.25 0,1.25